# Altium schematic symbol library Sensors.SchLib: 5 symbols
Pins are listed as number, name and electrical type; pins without a type are passive.

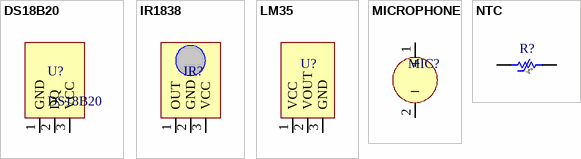
[diagram p0: symbols DS18B20 to NTC]

## DS18B20
designator U?
Digital temperature sensors
footprint TO-92
pins: 1 GND, 2 DQ, 3 VCC

## IR1838
designator IR?  (value not drawn)
footprint IR-1838-H
footprint IR-1838-H-2
footprint IR-1838-H-3
pins: 1 OUT, 2 GND, 3 VCC

## LM35
designator U?  (value not drawn)
Analog temperature sensors
footprint TO-92
pins: 1 VCC, 2 VOUT, 3 GND

## MICROPHONE
designator MIC?
footprint MIC-6022
footprint MIC-6050
footprint MIC-6050-H
footprint MIC-6050-H-MIR
pins: 1 +, 2 -
text: _

## NTC
designator R?  (value not drawn)
footprint NTC-0805
pins: 1, 2
text: -t°